# EAGLE library part PINHD-1X16 (library 0myLib)
PIN HEADER
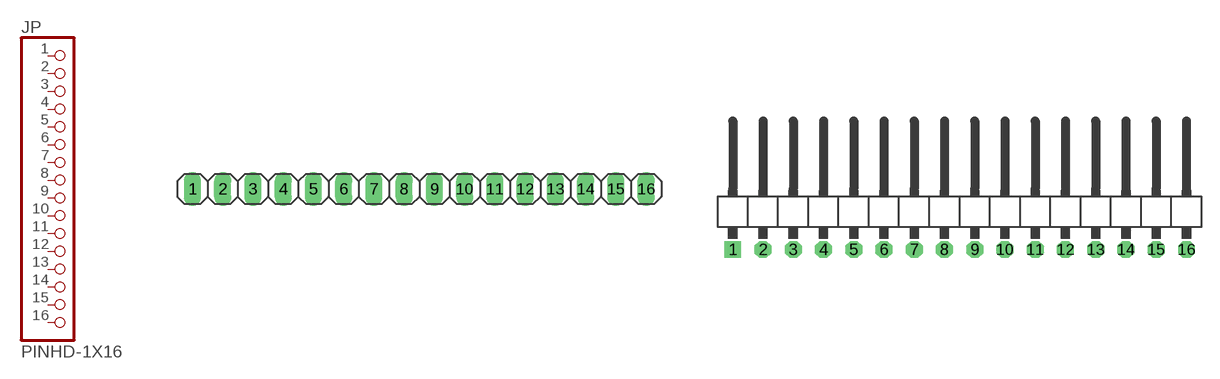
[diagram p10: symbol with the pads of 1X16; footprints 1X16, 1X16/90]

Designator prefix JP

## PINHD-1X16  [1X16]
1  1  pas
2  2  pas
3  3  pas
4  4  pas
5  5  pas
6  6  pas
7  7  pas
8  8  pas
9  9  pas
10  10  pas
11  11  pas
12  12  pas
13  13  pas
14  14  pas
15  15  pas
16  16  pas

## PINHD-1X16/90  [1X16/90]
Pads as for 1X16

## Footprint 1X16 (pad centres in mm)
PIN HEADER
drill 0.4 pad 1.422 long: 1 -19.05,0; 2 -16.51,0; 3 -13.97,0; 4 -11.43,0; 5 -8.89,0; 6 -6.35,0; 7 -3.81,0; 8 -1.27,0; 9 1.27,0; 10 3.81,0; 11 6.35,0; 12 8.89,0; 13 11.43,0; 14 13.97,0; 15 16.51,0; 16 19.05,0

## Footprint 1X16/90 (pad centres in mm)
PIN HEADER
drill 0.4 pad 1.422 square: 1 -19.05,-3.81
drill 0.4 pad 1.422 octagon: 2 -16.51,-3.81; 3 -13.97,-3.81; 4 -11.43,-3.81; 5 -8.89,-3.81; 6 -6.35,-3.81; 7 -3.81,-3.81; 8 -1.27,-3.81; 9 1.27,-3.81; 10 3.81,-3.81; 11 6.35,-3.81; 12 8.89,-3.81; 13 11.43,-3.81; 14 13.97,-3.81; 15 16.51,-3.81; 16 19.05,-3.81